# Altium footprint library CONNECTOR.PCBLIB: 232 footprints (part 7 of 15)
Each footprint in its own frame and in the unit in brackets; x right, y up, seen from the top. Pads: shape width x height; smd on the part's side, far side on the other; paste and mask are expansions set on the pad; w line width, h text height; cw(c..) or ccw(c..) is an arc to the next point about the centre after c.
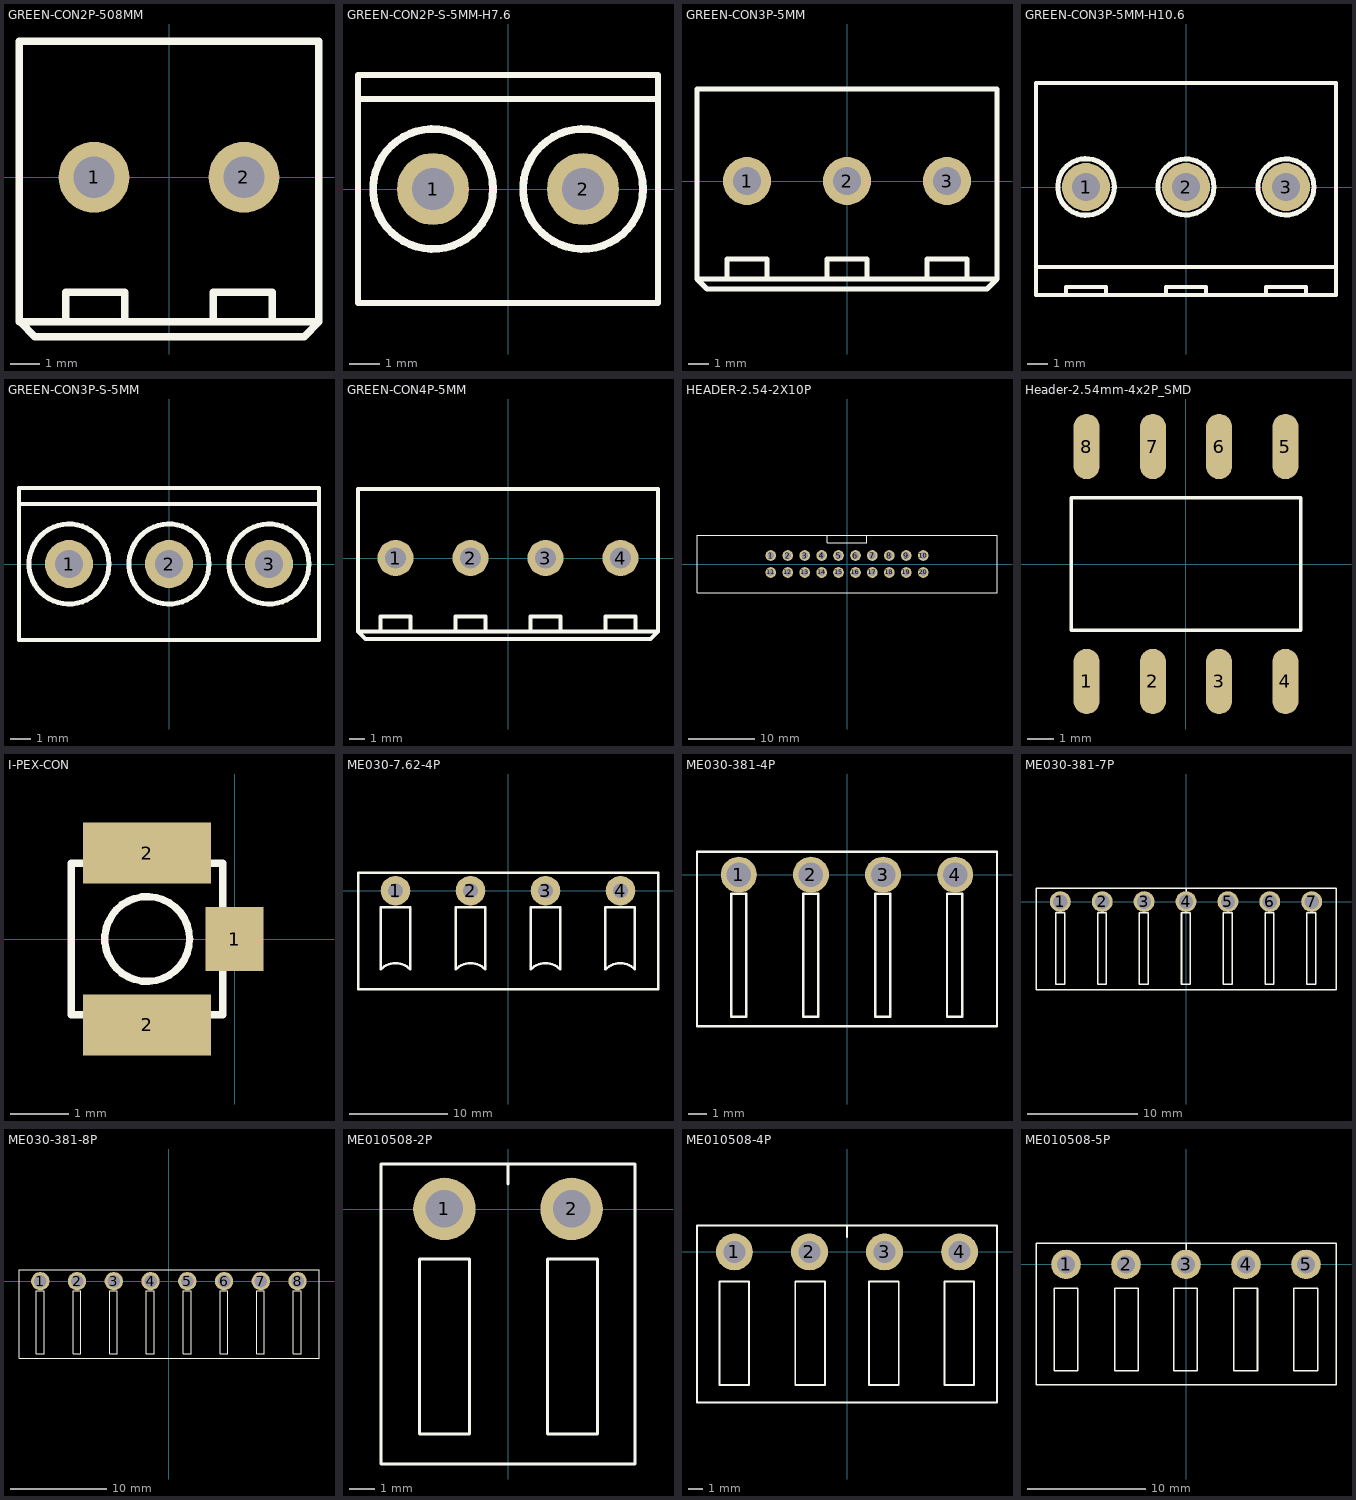
[diagram p6: the footprints below, top view; thin cyan lines are the x and y axes]

## GREEN-CON2P-508MM [mm]
pads (2):
  round 2.4 hole 1.4: 1(-2.54,0) 2(2.54,0)
TopOverlay:
  lines w0.254: -5.04,-4.9 -4.54,-5.4 4.58,-5.4 5.08,-4.9 ; -3.5,-4.9 -3.5,-3.9 -1.5,-3.9 -1.5,-4.9 ; 1.5,-4.9 1.5,-3.9 3.5,-3.9 3.5,-4.9 ; 5.08,-4.9 5.08,4.6 -5.08,4.6 -5.08,-4.9 5.08,-4.9

## GREEN-CON2P-S-5MM-H7.6 [mm]
pads (2):
  round 2.4 hole 1.4: 1(-2.5,0) 2(2.5,0)
TopOverlay:
  circle w0.254: c2.5,0 r2
  circle w0.254: c-2.5,0 r2
  lines w0.2: -5,3 5,3 ; -5,-3.8 5,-3.8 5,3.8 -5,3.8 -5,-3.8

## GREEN-CON3P-5MM [mm]
pads (3):
  round 2.4 hole 1.4: 1(-5,0) 2(0,0) 3(5,0)
TopOverlay:
  lines w0.254: -6,-4.9 -6,-3.9 -4,-3.9 -4,-4.9 ; -1,-4.9 -1,-3.9 1,-3.9 1,-4.9 ; 4,-4.9 4,-3.9 6,-3.9 6,-4.9 ; -7.5,-4.9 -7.5,4.6 7.5,4.6 7.5,-4.9 ; -7.5,-4.9 7.5,-4.9 ; -7.5,-4.9 -7,-5.4 7,-5.4 7.5,-4.9

## GREEN-CON3P-5MM-H10.6 [mm]
pads (3):
  round 2.4 hole 1.4: 1(-5,0) 2(0,0) 3(5,0)
TopOverlay:
  circle w0.254: c5,0 r1.4
  circle w0.254: c0,0 r1.4
  circle w0.254: c-5,0 r1.414
  lines w0.2: -7.5,-4 7.5,-4 ; -6,-5.4 -6,-5 -4,-5 -4,-5.4 ; -1,-5.4 -1,-5 1,-5 1,-5.4 ; 4,-5.4 4,-5 6,-5 6,-5.4 ; -7.5,-5.4 7.5,-5.4 7.5,5.2 -7.5,5.2 -7.5,-5.4

## GREEN-CON3P-S-5MM [mm]
pads (3):
  round 2.4 hole 1.4: 1(-5,0) 2(0,0) 3(5,0)
TopOverlay:
  circle w0.254: c5,0 r2
  circle w0.254: c0,0 r2
  circle w0.254: c-5,0 r2
  lines w0.2: -7.5,3 7.5,3 ; -7.5,-3.8 7.5,-3.8 7.5,3.8 -7.5,3.8 -7.5,-3.8

## GREEN-CON4P-5MM [mm]
pads (4):
  round 2.4 hole 1.4: 1(-7.5,0) 2(-2.5,0) 3(2.5,0) 4(7.5,0)
TopOverlay:
  lines w0.254: -8.5,-4.9 -8.5,-3.9 -6.5,-3.9 -6.5,-4.9 ; -3.5,-4.9 -3.5,-3.9 -1.5,-3.9 -1.5,-4.9 ; 1.5,-4.9 1.5,-3.9 3.5,-3.9 3.5,-4.9 ; 6.5,-4.9 6.5,-3.9 8.5,-3.9 8.5,-4.9 ; -10,-4.9 -9.5,-5.4 9.5,-5.4 10,-4.9 ; -10,-4.9 10,-4.9 ; -10,-4.9 -10,4.6 10,4.6 10,-4.9

## HEADER-2.54-2X10P [mm]
pads (20):
  round 1.6 hole 1: 1(-11.43,1.27) 2(-8.89,1.27) 3(-6.35,1.27) 4(-3.81,1.27) 5(-1.27,1.27) 6(1.27,1.27) 7(3.81,1.27) 8(6.35,1.27) 9(8.89,1.27) 10(11.43,1.27) 11(-11.43,-1.27) 12(-8.89,-1.27) 13(-6.35,-1.27) 14(-3.81,-1.27) 15(-1.27,-1.27) 16(1.27,-1.27) 17(3.81,-1.27) 18(6.35,-1.27) 19(8.89,-1.27) 20(11.43,-1.27)
TopOverlay:
  lines w0.127: -3,4.35 -3,3.15 3,3.15 3,4.35 ; -22.5,-4.35 22.5,-4.35 22.5,4.35 -22.5,4.35 -22.5,-4.35

## Header-2.54mm-4x2P_SMD [mm] "Header-2.54mm-4x2P_SMD"
pads (8):
  oval 1x2.5 smd: 1(-3.81,-4.5) 2(-1.27,-4.5) 3(1.27,-4.5) 4(3.81,-4.5) 5(3.81,4.5) 6(1.27,4.5) 7(-1.27,4.5) 8(-3.81,4.5)
TopOverlay:
  lines w0.127: -4.4,-2.54 -4.4,2.54 4.4,2.54 4.4,-2.54 -4.4,-2.54

## I-PEX-CON [mm]
pads (3):
  rect 1x1.1 smd: 1(0,0)
  rect 2.2x1.05 smd: 2(-1.5,-1.475) 2(-1.5,1.475)
TopOverlay:
  circle w0.127: c-1.5,0 r0.728
  lines w0.127: -2.8,-1.3 -2.8,1.3 -0.2,1.3 -0.2,-1.3 -2.8,-1.3

## ME030-7.62-4P [mm]
pads (4):
  round 3 hole 1.5: 1(-11.43,0) 2(-3.81,0) 3(3.81,0) 4(11.43,0)
TopOverlay:
  lines w0.254: -15.24,-10.02 15.24,-10.02 15.24,1.8 -15.24,1.8 -15.24,-10.02 ; -12.93,-8 cw(c-11.43,-9.5) -9.93,-8 -9.93,-1.7 -12.93,-1.7 -12.93,-8 ; -5.31,-8 cw(c-3.81,-9.5) -2.31,-8 -2.31,-1.7 -5.31,-1.7 -5.31,-8 ; 2.31,-8 cw(c3.81,-9.5) 5.31,-8 5.31,-1.7 2.31,-1.7 2.31,-8 ; 9.9,-8 cw(c11.4,-9.5) 12.9,-8 12.9,-1.7 9.9,-1.7 9.9,-8

## ME030-381-4P [mm]
pads (4):
  round 1.9 hole 1.3: 1(-5.715,0) 2(-1.905,0) 3(1.905,0) 4(5.715,0)
TopOverlay:
  lines w0.127: -7.925,-8 7.925,-8 7.925,1.2 -7.925,1.2 -7.925,-8 ; -6.115,-7.5 -5.315,-7.5 -5.315,-1 -6.115,-1 -6.115,-7.5 ; -2.315,-7.5 -1.515,-7.5 -1.515,-1 -2.315,-1 -2.315,-7.5 ; 1.485,-7.5 2.285,-7.5 2.285,-1 1.485,-1 1.485,-7.5 ; 5.285,-7.5 6.085,-7.5 6.085,-1 5.285,-1 5.285,-7.5

## ME030-381-7P [mm]
pads (7):
  round 1.9 hole 1.3: 1(-11.43,0) 2(-7.62,0) 3(-3.81,0) 4(0,0) 5(3.81,0) 6(7.62,0) 7(11.43,0)
TopOverlay:
  lines w0.127: 0,0 0,1.17 ; -13.64,-8 13.64,-8 13.64,1.2 -13.64,1.2 -13.64,-8 ; -11.83,-7.5 -11.03,-7.5 -11.03,-1 -11.83,-1 -11.83,-7.5 ; -8.03,-7.5 -7.23,-7.5 -7.23,-1 -8.03,-1 -8.03,-7.5 ; -4.23,-7.5 -3.43,-7.5 -3.43,-1 -4.23,-1 -4.23,-7.5 ; -0.43,-7.5 0.37,-7.5 0.37,-1 -0.43,-1 -0.43,-7.5 ; -0.4,-7.5 0.4,-7.5 0.4,-1 -0.4,-1 -0.4,-7.5 ; 3.4,-7.5 4.2,-7.5 4.2,-1 3.4,-1 3.4,-7.5 ; 7.2,-7.5 8,-7.5 8,-1 7.2,-1 7.2,-7.5 ; 11,-7.5 11.8,-7.5 11.8,-1 11,-1 11,-7.5

## ME030-381-8P [mm]
pads (8):
  round 1.9 hole 1.3: 1(-13.335,0) 2(-9.525,0) 3(-5.715,0) 4(-1.905,0) 5(1.905,0) 6(5.715,0) 7(9.525,0) 8(13.335,0)
TopOverlay:
  lines w0.127: -15.545,-8 15.555,-8 15.555,1.2 -15.545,1.2 -15.545,-8 ; -13.735,-7.5 -12.935,-7.5 -12.935,-1 -13.735,-1 -13.735,-7.5 ; -9.935,-7.5 -9.135,-7.5 -9.135,-1 -9.935,-1 -9.935,-7.5 ; -6.135,-7.5 -5.335,-7.5 -5.335,-1 -6.135,-1 -6.135,-7.5 ; -2.335,-7.5 -1.535,-7.5 -1.535,-1 -2.335,-1 -2.335,-7.5 ; 1.505,-7.5 2.305,-7.5 2.305,-1 1.505,-1 1.505,-7.5 ; 5.305,-7.5 6.105,-7.5 6.105,-1 5.305,-1 5.305,-7.5 ; 9.105,-7.5 9.905,-7.5 9.905,-1 9.105,-1 9.105,-7.5 ; 12.905,-7.5 13.705,-7.5 13.705,-1 12.905,-1 12.905,-7.5

## ME010508-2P [mm]
pads (2):
  round 2.5 hole 1.5: 1(-2.54,0) 2(2.54,0)
TopOverlay:
  lines w0.127: -5.08,1.8 -5.08,-10.2 5.08,-10.2 5.08,1.8 -5.07,1.8 ; 0,1 0,1.8 ; -3.54,-9 -3.54,-2 -1.54,-2 -1.54,-9 -3.54,-9 ; 1.58,-9 1.58,-2 3.58,-2 3.58,-9 1.58,-9

## ME010508-4P [mm]
pads (4):
  round 2.5 hole 1.5: 1(-7.62,0) 2(-2.54,0) 3(2.54,0) 4(7.62,0)
TopOverlay:
  lines w0.127: 0,1 0,1.8 ; -10.15,-10.2 -10.15,1.8 10.15,1.8 10.15,-10.2 -10.15,-10.2 ; -8.62,-9 -6.62,-9 -6.62,-2 -8.62,-2 -8.62,-9 ; -3.5,-9 -1.5,-9 -1.5,-2 -3.5,-2 -3.5,-9 ; 1.5,-9 3.5,-9 3.5,-2 1.5,-2 1.5,-9 ; 6.6,-9 8.6,-9 8.6,-2 6.6,-2 6.6,-9

## ME010508-5P [mm]
pads (5):
  round 2.5 hole 1.5: 1(-10.16,0) 2(-5.08,0) 3(0,0) 4(5.08,0) 5(10.16,0)
TopOverlay:
  lines w0.127: 0,0 0,1.8 ; -12.7,-10.2 12.7,-10.2 12.7,1.8 -12.7,1.8 -12.7,-10.2 ; -11.16,-9 -11.16,-2 -9.16,-2 -9.16,-9 -11.16,-9 ; -6.04,-9 -6.04,-2 -4.04,-2 -4.04,-9 -6.04,-9 ; -1.04,-9 -1.04,-2 0.96,-2 0.96,-9 -1.04,-9 ; 4.04,-9 4.04,-2 6.04,-2 6.04,-9 4.04,-9 ; 4.06,-9 4.06,-2 6.06,-2 6.06,-9 4.06,-9 ; 9.14,-9 9.14,-2 11.14,-2 11.14,-9 9.14,-9